# Altium schematic symbol library Enc_Bourns_PEC16-4220F-S0024_eec.SchLib: 1 symbol
Pins are listed as number, name and electrical type; pins without a type are passive.

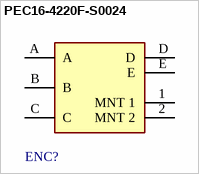
[diagram p0: symbol PEC16-4220F-S0024]

## PEC16-4220F-S0024
designator ENC?  (value not drawn)
pins: 1 MNT 1, 2 MNT 2, A, B, C, D, E